# Altium schematic symbol library con-harting-ml.SCHLIB: 70 symbols
Pins are listed as number, name and electrical type; pins without a type are passive.

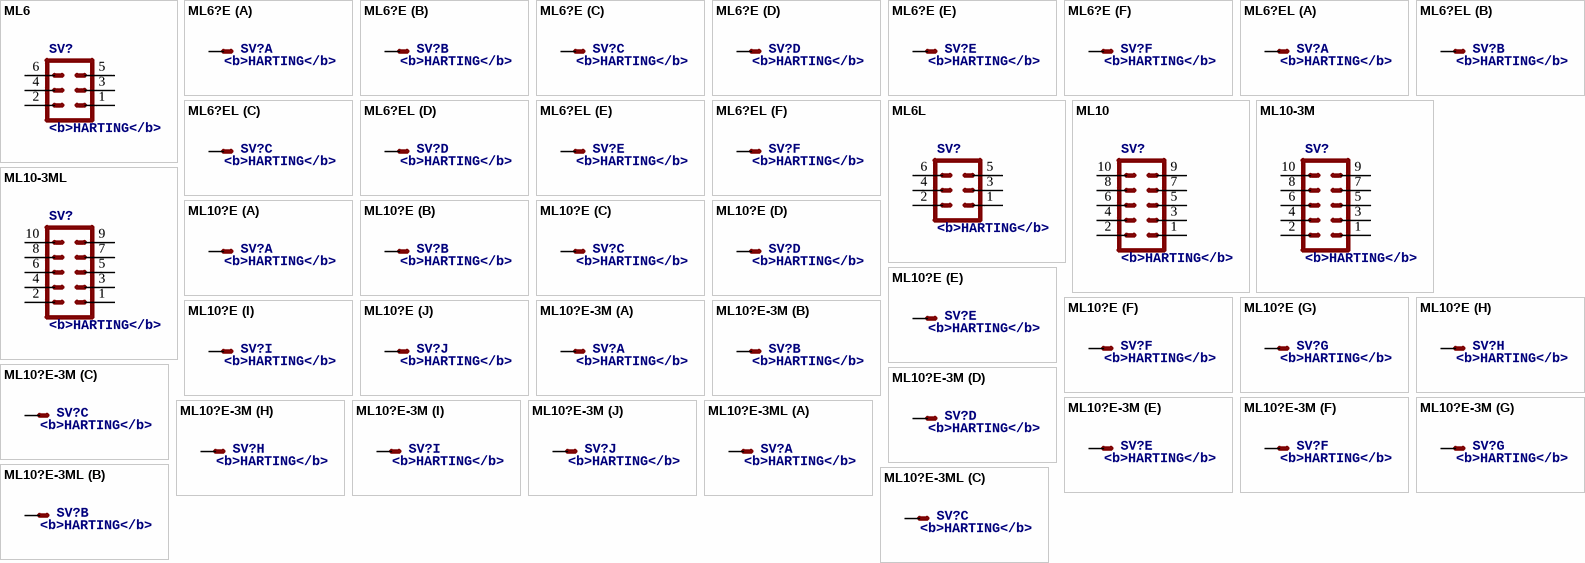
[diagram p0: symbols ML6 to ML10?E-3ML]

## ML6
designator SV?, comment <b>HARTING</b>
OC_FARNELL: unknown; OC_NEWARK: unknown
footprint ML6
pins: 1, 2, 3, 4, 5, 6

## ML6?E
designator SV?, comment <b>HARTING</b>
OC_FARNELL: unknown; OC_NEWARK: unknown
footprint ML6
part A pins: 1 S
part B pins: 2 S
part C pins: 3 S
part D pins: 4 S
part E pins: 5 S
part F pins: 6 S

## ML6?EL
designator SV?, comment <b>HARTING</b>
OC_FARNELL: unknown; OC_NEWARK: unknown
footprint ML6L
part A pins: 1 S
part B pins: 2 S
part C pins: 3 S
part D pins: 4 S
part E pins: 5 S
part F pins: 6 S

## ML6L
designator SV?, comment <b>HARTING</b>
OC_FARNELL: unknown; OC_NEWARK: unknown
footprint ML6L
pins: 1, 2, 3, 4, 5, 6

## ML10
designator SV?, comment <b>HARTING</b>
OC_FARNELL: unknown; OC_NEWARK: unknown
footprint ML10
pins: 1, 2, 3, 4, 5, 6, 7, 8, 9, 10

## ML10-3M
designator SV?, comment <b>HARTING</b>
OC_FARNELL: unknown; OC_NEWARK: unknown
footprint 3M_10
pins: 1, 2, 3, 4, 5, 6, 7, 8, 9, 10

## ML10-3ML
designator SV?, comment <b>HARTING</b>
OC_FARNELL: unknown; OC_NEWARK: unknown
footprint 3M_10L
pins: 1, 2, 3, 4, 5, 6, 7, 8, 9, 10

## ML10?E
designator SV?, comment <b>HARTING</b>
OC_FARNELL: unknown; OC_NEWARK: unknown
footprint ML10
part A pins: 1 S
part B pins: 2 S
part C pins: 3 S
part D pins: 4 S
part E pins: 5 S
part F pins: 6 S
part G pins: 7 S
part H pins: 8 S
part I pins: 9 S
part J pins: 10 S

## ML10?E-3M
designator SV?, comment <b>HARTING</b>
OC_FARNELL: unknown; OC_NEWARK: unknown
footprint 3M_10
part A pins: 1 S
part B pins: 2 S
part C pins: 3 S
part D pins: 4 S
part E pins: 5 S
part F pins: 6 S
part G pins: 7 S
part H pins: 8 S
part I pins: 9 S
part J pins: 10 S

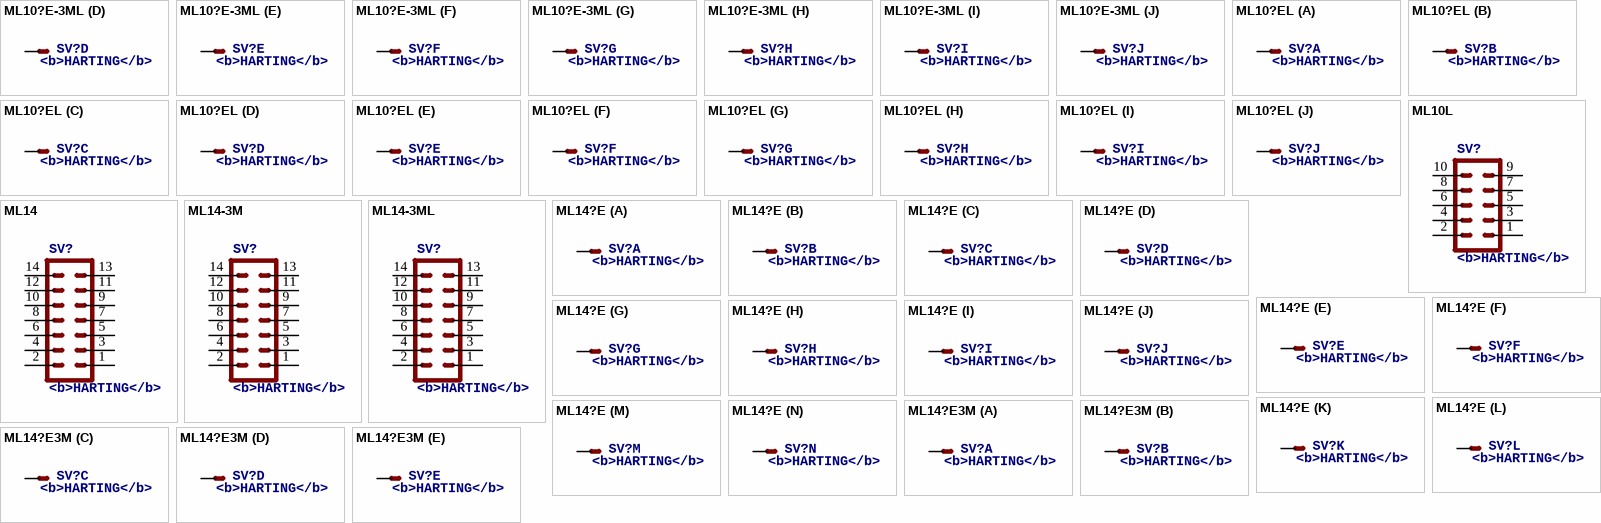
[diagram p1: symbols ML10?E-3ML to ML14?E3M]

## ML10?E-3ML
designator SV?, comment <b>HARTING</b>
OC_FARNELL: unknown; OC_NEWARK: unknown
footprint 3M_10L
part A pins: 1 S
part B pins: 2 S
part C pins: 3 S
part D pins: 4 S
part E pins: 5 S
part F pins: 6 S
part G pins: 7 S
part H pins: 8 S
part I pins: 9 S
part J pins: 10 S

## ML10?EL
designator SV?, comment <b>HARTING</b>
OC_FARNELL: unknown; OC_NEWARK: unknown
footprint ML10L
part A pins: 1 S
part B pins: 2 S
part C pins: 3 S
part D pins: 4 S
part E pins: 5 S
part F pins: 6 S
part G pins: 7 S
part H pins: 8 S
part I pins: 9 S
part J pins: 10 S

## ML10L
designator SV?, comment <b>HARTING</b>
OC_FARNELL: unknown; OC_NEWARK: unknown
footprint ML10L
pins: 1, 2, 3, 4, 5, 6, 7, 8, 9, 10

## ML14
designator SV?, comment <b>HARTING</b>
OC_FARNELL: unknown; OC_NEWARK: unknown
footprint ML14
pins: 1, 2, 3, 4, 5, 6, 7, 8, 9, 10, 11, 12, 13, 14

## ML14-3M
designator SV?, comment <b>HARTING</b>
OC_FARNELL: unknown; OC_NEWARK: unknown
footprint 3M_14
pins: 1, 2, 3, 4, 5, 6, 7, 8, 9, 10, 11, 12, 13, 14

## ML14-3ML
designator SV?, comment <b>HARTING</b>
OC_FARNELL: unknown; OC_NEWARK: unknown
footprint 3M_14L
pins: 1, 2, 3, 4, 5, 6, 7, 8, 9, 10, 11, 12, 13, 14

## ML14?E
designator SV?, comment <b>HARTING</b>
OC_FARNELL: unknown; OC_NEWARK: unknown
footprint ML14
part A pins: 1 S
part B pins: 2 S
part C pins: 3 S
part D pins: 4 S
part E pins: 5 S
part F pins: 6 S
part G pins: 7 S
part H pins: 8 S
part I pins: 9 S
part J pins: 10 S
part K pins: 11 S
part L pins: 12 S
part M pins: 13 S
part N pins: 14 S

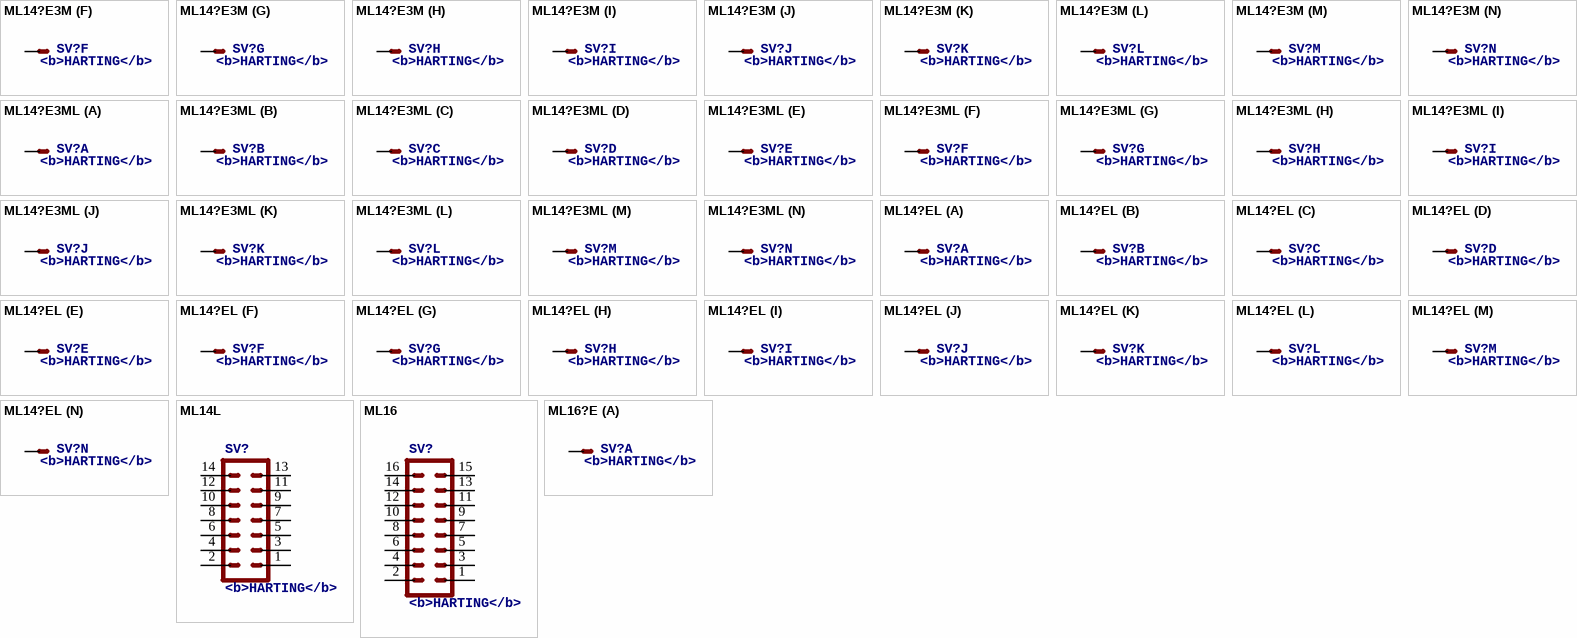
[diagram p2: symbols ML14?E3M to ML16?E]

## ML14?E3M
designator SV?, comment <b>HARTING</b>
OC_FARNELL: unknown; OC_NEWARK: unknown
footprint 3M_14
part A pins: 1 S
part B pins: 2 S
part C pins: 3 S
part D pins: 4 S
part E pins: 5 S
part F pins: 6 S
part G pins: 7 S
part H pins: 8 S
part I pins: 9 S
part J pins: 10 S
part K pins: 11 S
part L pins: 12 S
part M pins: 13 S
part N pins: 14 S

## ML14?E3ML
designator SV?, comment <b>HARTING</b>
OC_FARNELL: unknown; OC_NEWARK: unknown
footprint 3M_14L
part A pins: 1 S
part B pins: 2 S
part C pins: 3 S
part D pins: 4 S
part E pins: 5 S
part F pins: 6 S
part G pins: 7 S
part H pins: 8 S
part I pins: 9 S
part J pins: 10 S
part K pins: 11 S
part L pins: 12 S
part M pins: 13 S
part N pins: 14 S

## ML14?EL
designator SV?, comment <b>HARTING</b>
OC_FARNELL: unknown; OC_NEWARK: unknown
footprint ML14L
part A pins: 1 S
part B pins: 2 S
part C pins: 3 S
part D pins: 4 S
part E pins: 5 S
part F pins: 6 S
part G pins: 7 S
part H pins: 8 S
part I pins: 9 S
part J pins: 10 S
part K pins: 11 S
part L pins: 12 S
part M pins: 13 S
part N pins: 14 S

## ML14L
designator SV?, comment <b>HARTING</b>
OC_FARNELL: unknown; OC_NEWARK: unknown
footprint ML14L
pins: 1, 2, 3, 4, 5, 6, 7, 8, 9, 10, 11, 12, 13, 14

## ML16
designator SV?, comment <b>HARTING</b>
OC_FARNELL: unknown; OC_NEWARK: unknown
footprint ML16
pins: 1, 2, 3, 4, 5, 6, 7, 8, 9, 10, 11, 12, 13, 14, 15, 16

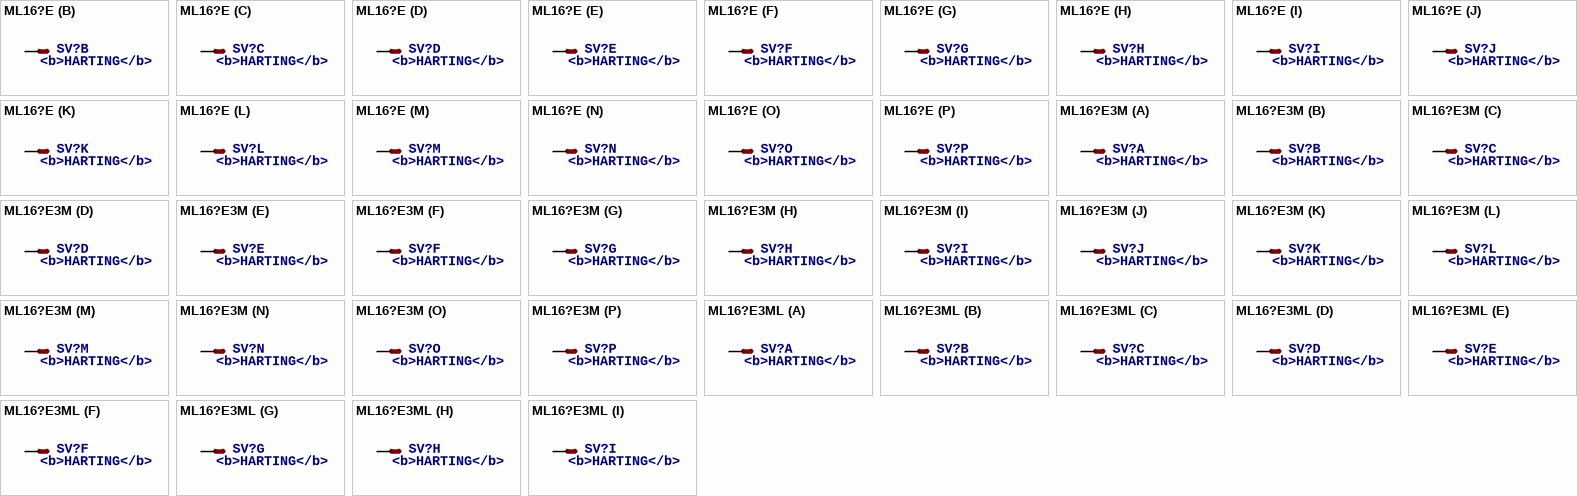
[diagram p3: symbols ML16?E to ML16?E3ML]

## ML16?E
designator SV?, comment <b>HARTING</b>
OC_FARNELL: unknown; OC_NEWARK: unknown
footprint ML16
part A pins: 1 S
part B pins: 2 S
part C pins: 3 S
part D pins: 4 S
part E pins: 5 S
part F pins: 6 S
part G pins: 7 S
part H pins: 8 S
part I pins: 9 S
part J pins: 10 S
part K pins: 11 S
part L pins: 12 S
part M pins: 13 S
part N pins: 14 S
part O pins: 15 S
part P pins: 16 S

## ML16?E3M
designator SV?, comment <b>HARTING</b>
OC_FARNELL: unknown; OC_NEWARK: unknown
footprint 3M_16
part A pins: 1 S
part B pins: 2 S
part C pins: 3 S
part D pins: 4 S
part E pins: 5 S
part F pins: 6 S
part G pins: 7 S
part H pins: 8 S
part I pins: 9 S
part J pins: 10 S
part K pins: 11 S
part L pins: 12 S
part M pins: 13 S
part N pins: 14 S
part O pins: 15 S
part P pins: 16 S

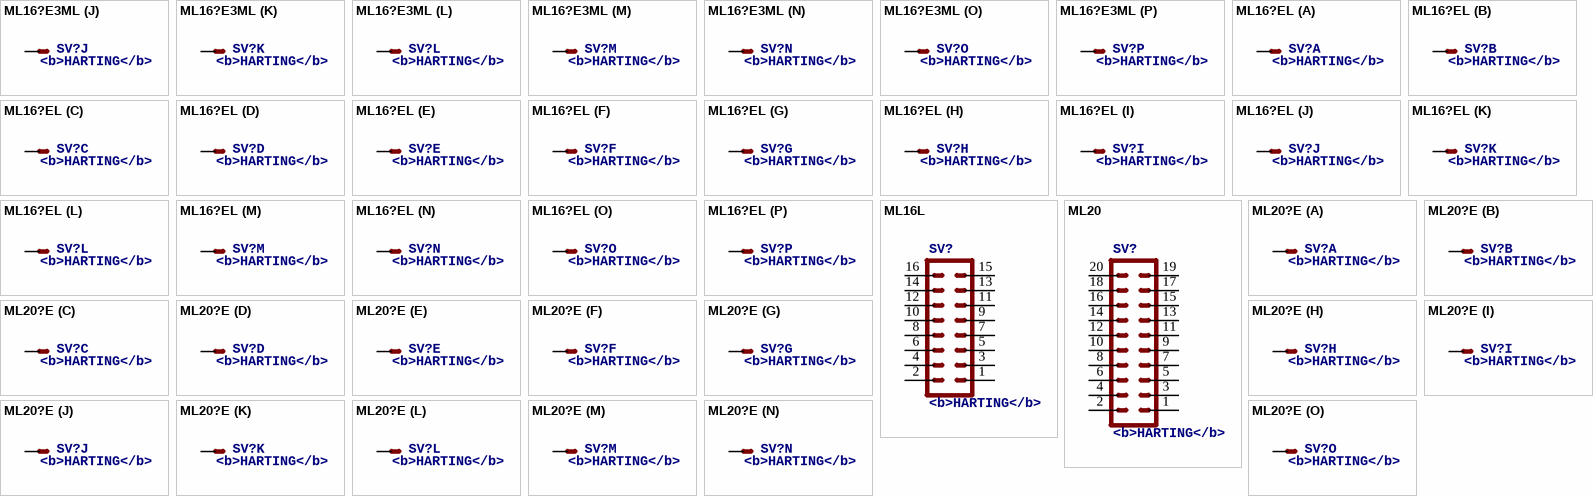
[diagram p4: symbols ML16?E3ML to ML20?E]

## ML16?E3ML
designator SV?, comment <b>HARTING</b>
OC_FARNELL: unknown; OC_NEWARK: unknown
footprint 3M_16L
part A pins: 1 S
part B pins: 2 S
part C pins: 3 S
part D pins: 4 S
part E pins: 5 S
part F pins: 6 S
part G pins: 7 S
part H pins: 8 S
part I pins: 9 S
part J pins: 10 S
part K pins: 11 S
part L pins: 12 S
part M pins: 13 S
part N pins: 14 S
part O pins: 15 S
part P pins: 16 S

## ML16?EL
designator SV?, comment <b>HARTING</b>
OC_FARNELL: unknown; OC_NEWARK: unknown
footprint ML16L
part A pins: 1 S
part B pins: 2 S
part C pins: 3 S
part D pins: 4 S
part E pins: 5 S
part F pins: 6 S
part G pins: 7 S
part H pins: 8 S
part I pins: 9 S
part J pins: 10 S
part K pins: 11 S
part L pins: 12 S
part M pins: 13 S
part N pins: 14 S
part O pins: 15 S
part P pins: 16 S

## ML16L
designator SV?, comment <b>HARTING</b>
OC_FARNELL: unknown; OC_NEWARK: unknown
footprint ML16L
pins: 1, 2, 3, 4, 5, 6, 7, 8, 9, 10, 11, 12, 13, 14, 15, 16

## ML20
designator SV?, comment <b>HARTING</b>
OC_FARNELL: unknown; OC_NEWARK: unknown
footprint ML20
pins: 1, 2, 3, 4, 5, 6, 7, 8, 9, 10, 11, 12, 13, 14, 15, 16, 17, 18, 19, 20

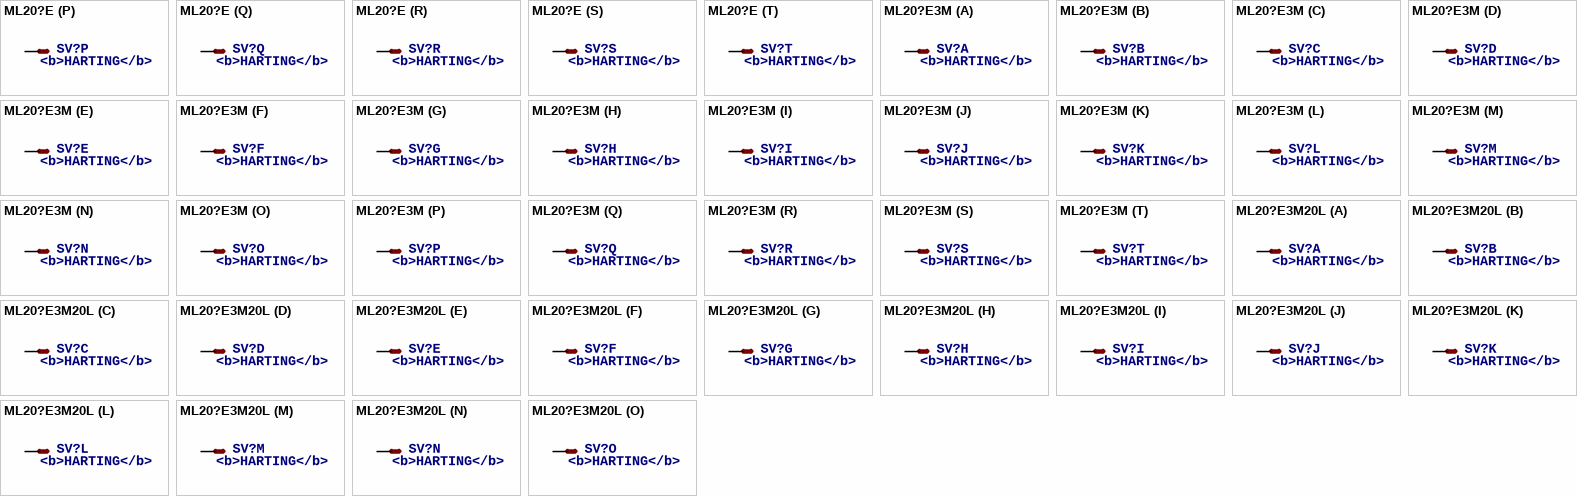
[diagram p5: symbols ML20?E to ML20?E3M20L]

## ML20?E
designator SV?, comment <b>HARTING</b>
OC_FARNELL: unknown; OC_NEWARK: unknown
footprint ML20
part A pins: 1 S
part B pins: 2 S
part C pins: 3 S
part D pins: 4 S
part E pins: 5 S
part F pins: 6 S
part G pins: 7 S
part H pins: 8 S
part I pins: 9 S
part J pins: 10 S
part K pins: 11 S
part L pins: 12 S
part M pins: 13 S
part N pins: 14 S
part O pins: 15 S
part P pins: 16 S
part Q pins: 17 S
part R pins: 18 S
part S pins: 19 S
part T pins: 20 S

## ML20?E3M
designator SV?, comment <b>HARTING</b>
OC_FARNELL: unknown; OC_NEWARK: unknown
footprint 3M_20
part A pins: 1 S
part B pins: 2 S
part C pins: 3 S
part D pins: 4 S
part E pins: 5 S
part F pins: 6 S
part G pins: 7 S
part H pins: 8 S
part I pins: 9 S
part J pins: 10 S
part K pins: 11 S
part L pins: 12 S
part M pins: 13 S
part N pins: 14 S
part O pins: 15 S
part P pins: 16 S
part Q pins: 17 S
part R pins: 18 S
part S pins: 19 S
part T pins: 20 S

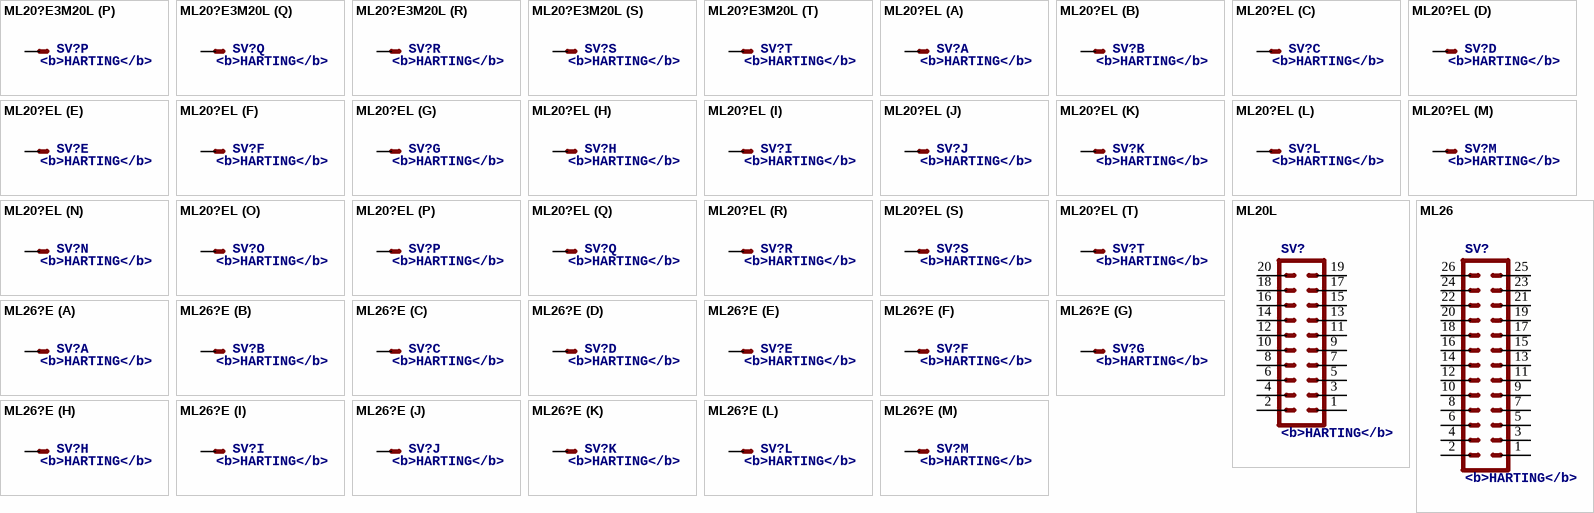
[diagram p6: symbols ML20?E3M20L to ML26?E]

## ML20?E3M20L
designator SV?, comment <b>HARTING</b>
OC_FARNELL: unknown; OC_NEWARK: unknown
footprint 3M_20L
part A pins: 1 S
part B pins: 2 S
part C pins: 3 S
part D pins: 4 S
part E pins: 5 S
part F pins: 6 S
part G pins: 7 S
part H pins: 8 S
part I pins: 9 S
part J pins: 10 S
part K pins: 11 S
part L pins: 12 S
part M pins: 13 S
part N pins: 14 S
part O pins: 15 S
part P pins: 16 S
part Q pins: 17 S
part R pins: 18 S
part S pins: 19 S
part T pins: 20 S

## ML20?EL
designator SV?, comment <b>HARTING</b>
OC_FARNELL: unknown; OC_NEWARK: unknown
footprint ML20L
part A pins: 1 S
part B pins: 2 S
part C pins: 3 S
part D pins: 4 S
part E pins: 5 S
part F pins: 6 S
part G pins: 7 S
part H pins: 8 S
part I pins: 9 S
part J pins: 10 S
part K pins: 11 S
part L pins: 12 S
part M pins: 13 S
part N pins: 14 S
part O pins: 15 S
part P pins: 16 S
part Q pins: 17 S
part R pins: 18 S
part S pins: 19 S
part T pins: 20 S

## ML20L
designator SV?, comment <b>HARTING</b>
OC_FARNELL: unknown; OC_NEWARK: unknown
footprint ML20L
pins: 1, 2, 3, 4, 5, 6, 7, 8, 9, 10, 11, 12, 13, 14, 15, 16, 17, 18, 19, 20

## ML26
designator SV?, comment <b>HARTING</b>
OC_FARNELL: unknown; OC_NEWARK: unknown
footprint ML26
pins: 1, 2, 3, 4, 5, 6, 7, 8, 9, 10, 11, 12, 13, 14, 15, 16, 17, 18, 19, 20, 21, 22, 23, 24, 25, 26

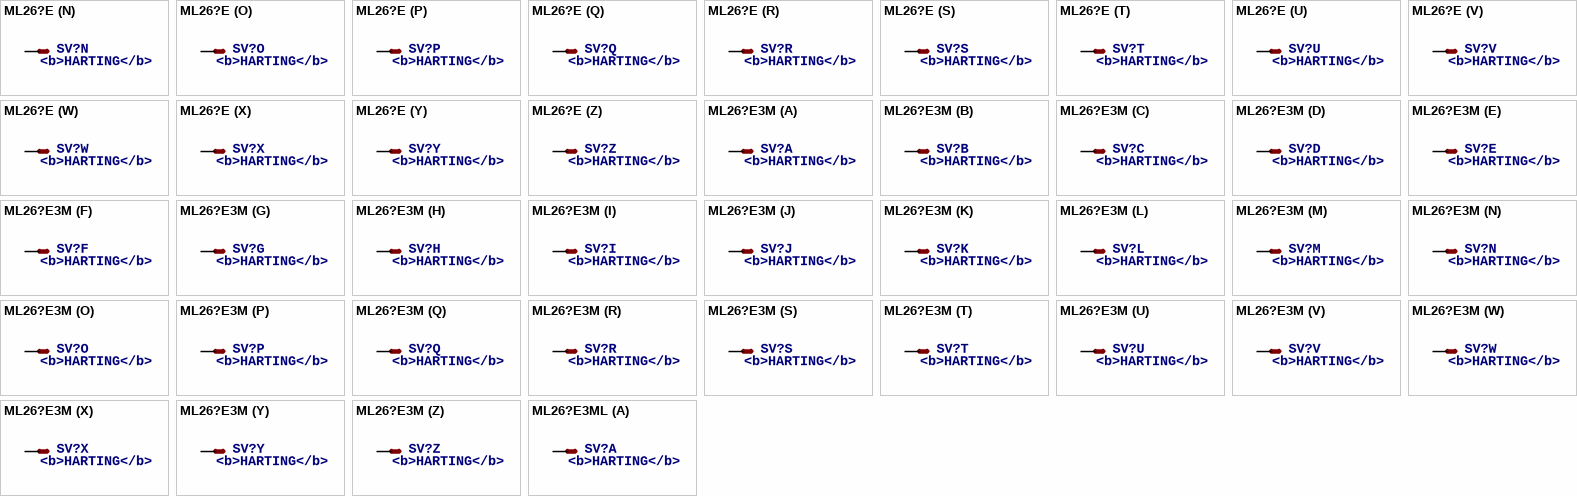
[diagram p7: symbols ML26?E to ML26?E3ML]

## ML26?E
designator SV?, comment <b>HARTING</b>
OC_FARNELL: unknown; OC_NEWARK: unknown
footprint ML26
part A pins: 1 S
part B pins: 2 S
part C pins: 3 S
part D pins: 4 S
part E pins: 5 S
part F pins: 6 S
part G pins: 7 S
part H pins: 8 S
part I pins: 9 S
part J pins: 10 S
part K pins: 11 S
part L pins: 12 S
part M pins: 13 S
part N pins: 14 S
part O pins: 15 S
part P pins: 16 S
part Q pins: 17 S
part R pins: 18 S
part S pins: 19 S
part T pins: 20 S
part U pins: 21 S
part V pins: 22 S
part W pins: 23 S
part X pins: 24 S
part Y pins: 25 S
part Z pins: 26 S

## ML26?E3M
designator SV?, comment <b>HARTING</b>
OC_FARNELL: unknown; OC_NEWARK: unknown
footprint 3M_26
part A pins: 1 S
part B pins: 2 S
part C pins: 3 S
part D pins: 4 S
part E pins: 5 S
part F pins: 6 S
part G pins: 7 S
part H pins: 8 S
part I pins: 9 S
part J pins: 10 S
part K pins: 11 S
part L pins: 12 S
part M pins: 13 S
part N pins: 14 S
part O pins: 15 S
part P pins: 16 S
part Q pins: 17 S
part R pins: 18 S
part S pins: 19 S
part T pins: 20 S
part U pins: 21 S
part V pins: 22 S
part W pins: 23 S
part X pins: 24 S
part Y pins: 25 S
part Z pins: 26 S

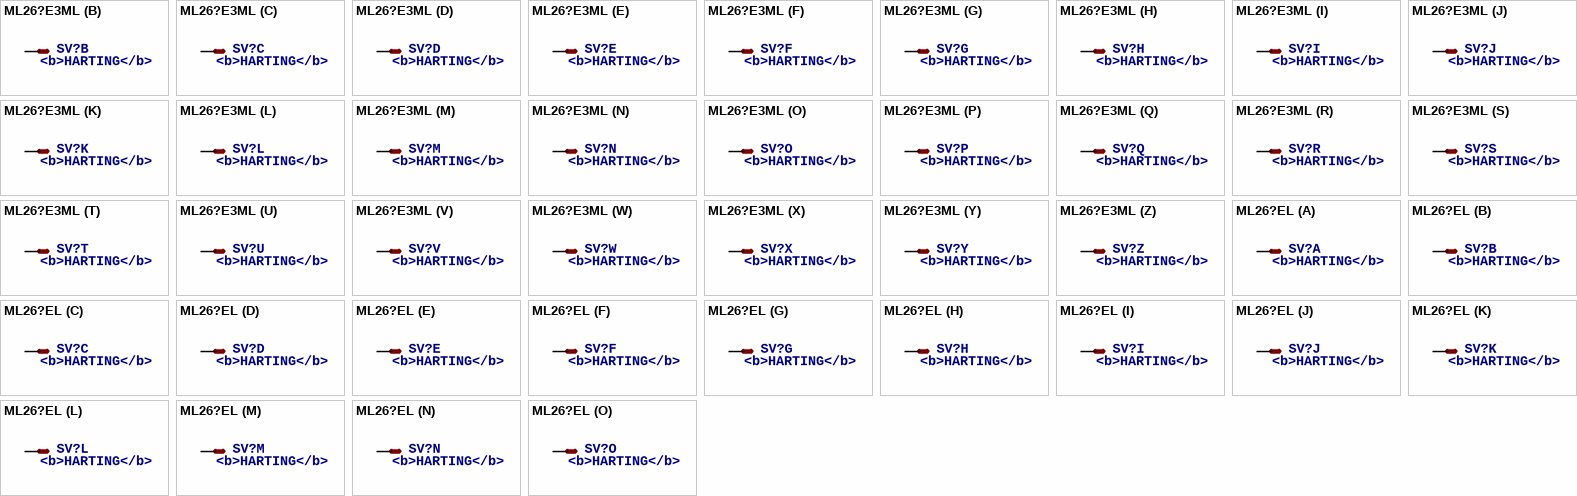
[diagram p8: symbols ML26?E3ML to ML26?EL]

## ML26?E3ML
designator SV?, comment <b>HARTING</b>
OC_FARNELL: unknown; OC_NEWARK: unknown
footprint 3M_26L
part A pins: 1 S
part B pins: 2 S
part C pins: 3 S
part D pins: 4 S
part E pins: 5 S
part F pins: 6 S
part G pins: 7 S
part H pins: 8 S
part I pins: 9 S
part J pins: 10 S
part K pins: 11 S
part L pins: 12 S
part M pins: 13 S
part N pins: 14 S
part O pins: 15 S
part P pins: 16 S
part Q pins: 17 S
part R pins: 18 S
part S pins: 19 S
part T pins: 20 S
part U pins: 21 S
part V pins: 22 S
part W pins: 23 S
part X pins: 24 S
part Y pins: 25 S
part Z pins: 26 S

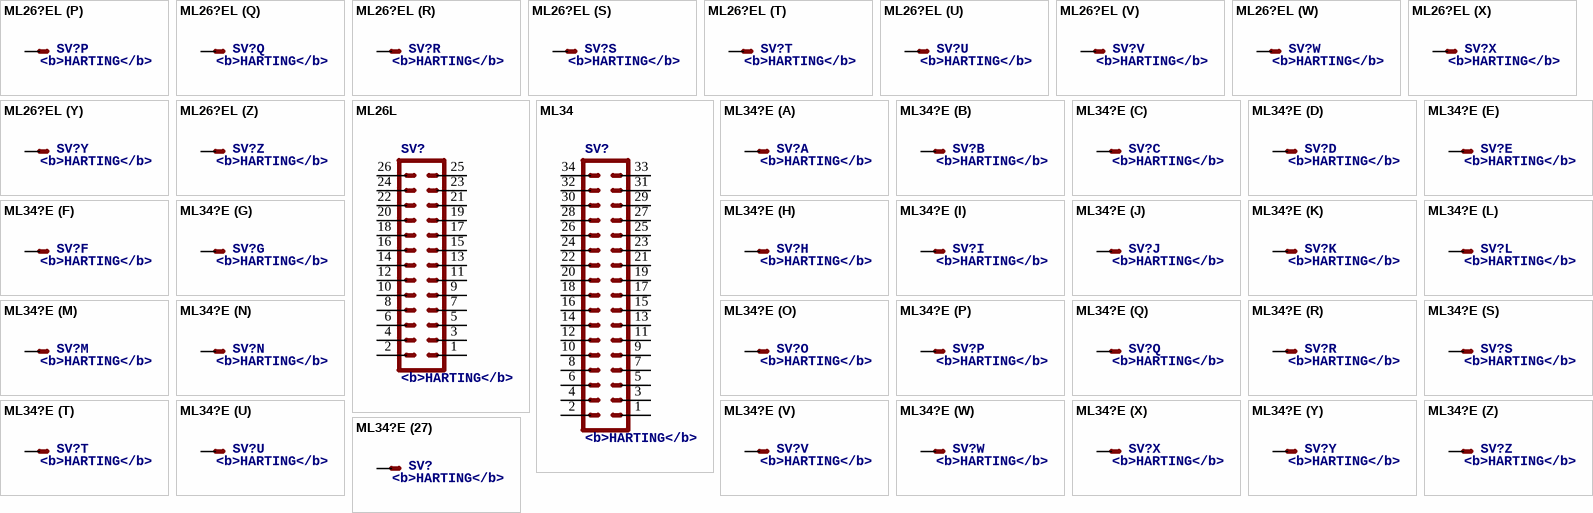
[diagram p9: symbols ML26?EL to ML34?E]

## ML26?EL
designator SV?, comment <b>HARTING</b>
OC_FARNELL: unknown; OC_NEWARK: unknown
footprint ML26L
part A pins: 1 S
part B pins: 2 S
part C pins: 3 S
part D pins: 4 S
part E pins: 5 S
part F pins: 6 S
part G pins: 7 S
part H pins: 8 S
part I pins: 9 S
part J pins: 10 S
part K pins: 11 S
part L pins: 12 S
part M pins: 13 S
part N pins: 14 S
part O pins: 15 S
part P pins: 16 S
part Q pins: 17 S
part R pins: 18 S
part S pins: 19 S
part T pins: 20 S
part U pins: 21 S
part V pins: 22 S
part W pins: 23 S
part X pins: 24 S
part Y pins: 25 S
part Z pins: 26 S

## ML26L
designator SV?, comment <b>HARTING</b>
OC_FARNELL: unknown; OC_NEWARK: unknown
footprint ML26L
pins: 1, 2, 3, 4, 5, 6, 7, 8, 9, 10, 11, 12, 13, 14, 15, 16, 17, 18, 19, 20, 21, 22, 23, 24, 25, 26

## ML34
designator SV?, comment <b>HARTING</b>
OC_FARNELL: unknown; OC_NEWARK: unknown
footprint ML34
pins: 1, 2, 3, 4, 5, 6, 7, 8, 9, 10, 11, 12, 13, 14, 15, 16, 17, 18, 19, 20, 21, 22, 23, 24, 25, 26, 27, 28, 29, 30, 31, 32, 33, 34

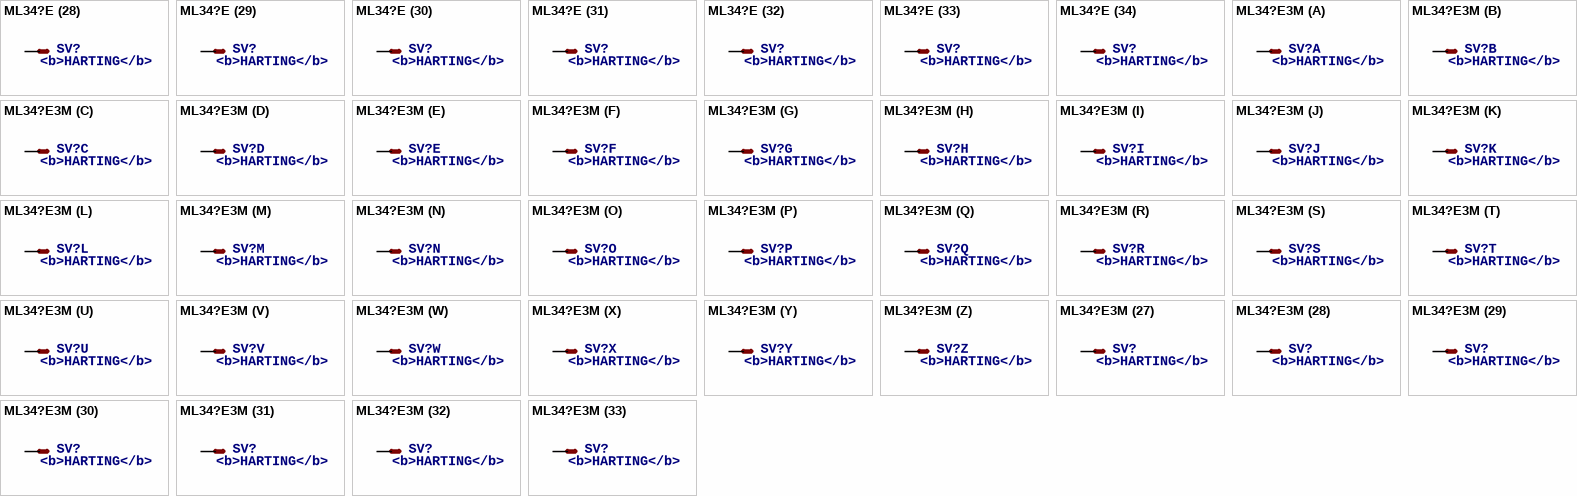
[diagram p10: symbols ML34?E to ML34?E3M]

## ML34?E
designator SV?, comment <b>HARTING</b>
OC_FARNELL: unknown; OC_NEWARK: unknown
footprint ML34
part A pins: 1 S
part B pins: 2 S
part C pins: 3 S
part D pins: 4 S
part E pins: 5 S
part F pins: 6 S
part G pins: 7 S
part H pins: 8 S
part I pins: 9 S
part J pins: 10 S
part K pins: 11 S
part L pins: 12 S
part M pins: 13 S
part N pins: 14 S
part O pins: 15 S
part P pins: 16 S
part Q pins: 17 S
part R pins: 18 S
part S pins: 19 S
part T pins: 20 S
part U pins: 21 S
part V pins: 22 S
part W pins: 23 S
part X pins: 24 S
part Y pins: 25 S
part Z pins: 26 S
part 27 pins: 27 S
part 28 pins: 28 S
part 29 pins: 29 S
part 30 pins: 30 S
part 31 pins: 31 S
part 32 pins: 32 S
part 33 pins: 33 S
part 34 pins: 34 S

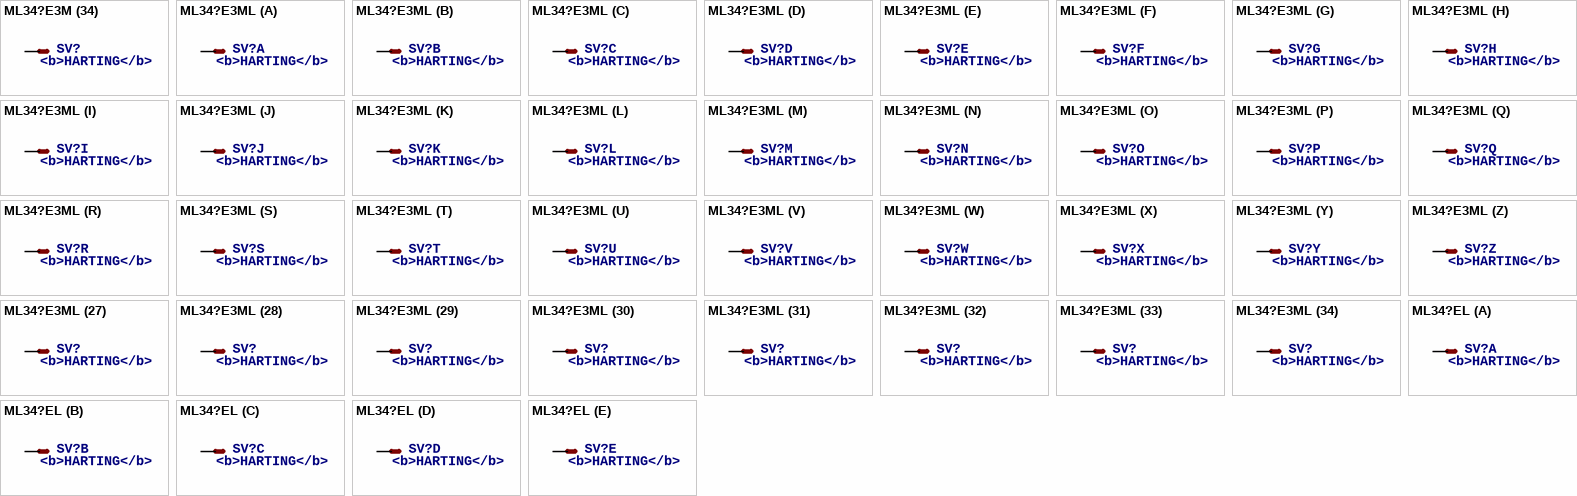
[diagram p11: symbols ML34?E3M to ML34?EL]

## ML34?E3M
designator SV?, comment <b>HARTING</b>
OC_FARNELL: unknown; OC_NEWARK: unknown
footprint 3M_34
part A pins: 1 S
part B pins: 2 S
part C pins: 3 S
part D pins: 4 S
part E pins: 5 S
part F pins: 6 S
part G pins: 7 S
part H pins: 8 S
part I pins: 9 S
part J pins: 10 S
part K pins: 11 S
part L pins: 12 S
part M pins: 13 S
part N pins: 14 S
part O pins: 15 S
part P pins: 16 S
part Q pins: 17 S
part R pins: 18 S
part S pins: 19 S
part T pins: 20 S
part U pins: 21 S
part V pins: 22 S
part W pins: 23 S
part X pins: 24 S
part Y pins: 25 S
part Z pins: 26 S
part 27 pins: 27 S
part 28 pins: 28 S
part 29 pins: 29 S
part 30 pins: 30 S
part 31 pins: 31 S
part 32 pins: 32 S
part 33 pins: 33 S
part 34 pins: 34 S

## ML34?E3ML
designator SV?, comment <b>HARTING</b>
OC_FARNELL: unknown; OC_NEWARK: unknown
footprint 3M_34L
part A pins: 1 S
part B pins: 2 S
part C pins: 3 S
part D pins: 4 S
part E pins: 5 S
part F pins: 6 S
part G pins: 7 S
part H pins: 8 S
part I pins: 9 S
part J pins: 10 S
part K pins: 11 S
part L pins: 12 S
part M pins: 13 S
part N pins: 14 S
part O pins: 15 S
part P pins: 16 S
part Q pins: 17 S
part R pins: 18 S
part S pins: 19 S
part T pins: 20 S
part U pins: 21 S
part V pins: 22 S
part W pins: 23 S
part X pins: 24 S
part Y pins: 25 S
part Z pins: 26 S
part 27 pins: 27 S
part 28 pins: 28 S
part 29 pins: 29 S
part 30 pins: 30 S
part 31 pins: 31 S
part 32 pins: 32 S
part 33 pins: 33 S
part 34 pins: 34 S

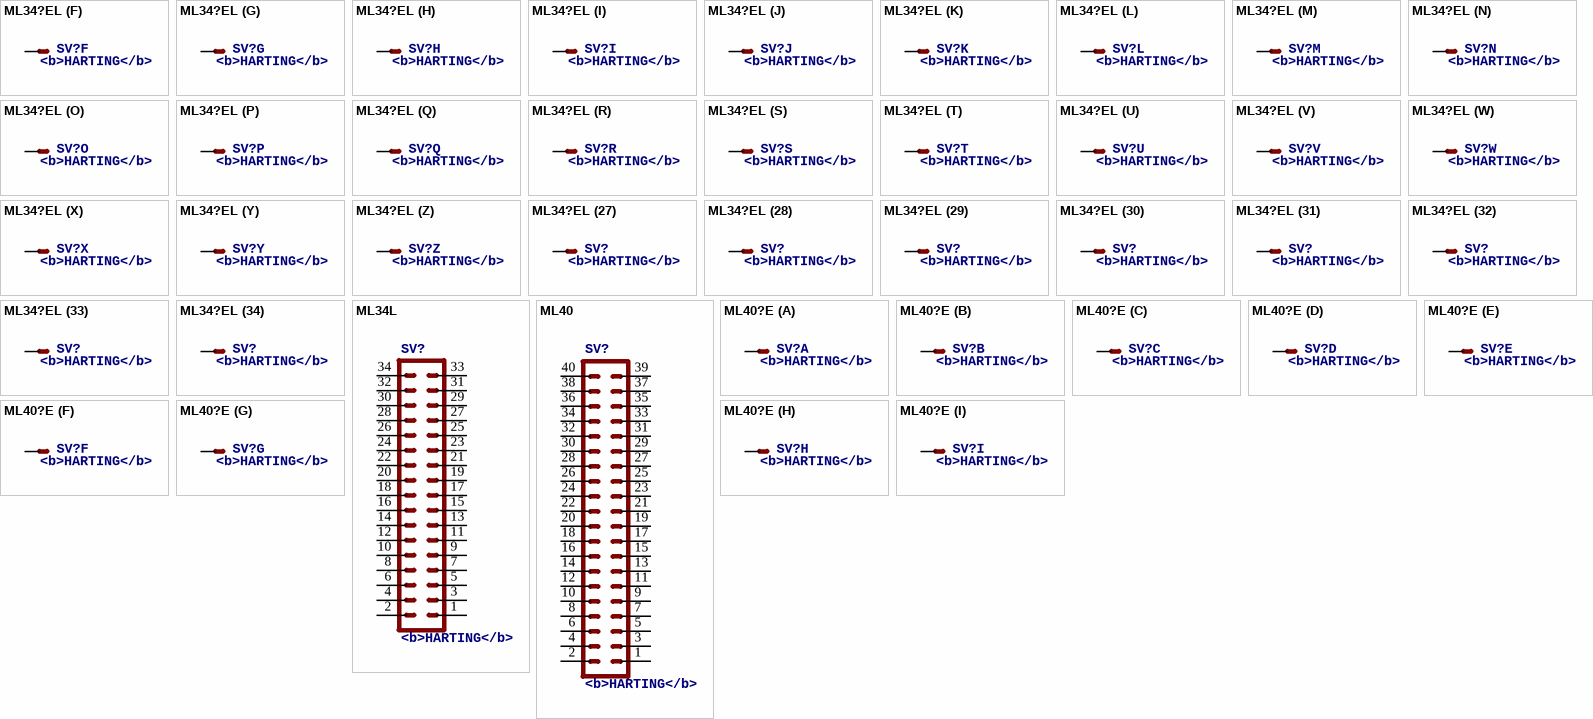
[diagram p12: symbols ML34?EL to ML40?E]

## ML34?EL
designator SV?, comment <b>HARTING</b>
OC_FARNELL: unknown; OC_NEWARK: unknown
footprint ML34L
part A pins: 1 S
part B pins: 2 S
part C pins: 3 S
part D pins: 4 S
part E pins: 5 S
part F pins: 6 S
part G pins: 7 S
part H pins: 8 S
part I pins: 9 S
part J pins: 10 S
part K pins: 11 S
part L pins: 12 S
part M pins: 13 S
part N pins: 14 S
part O pins: 15 S
part P pins: 16 S
part Q pins: 17 S
part R pins: 18 S
part S pins: 19 S
part T pins: 20 S
part U pins: 21 S
part V pins: 22 S
part W pins: 23 S
part X pins: 24 S
part Y pins: 25 S
part Z pins: 26 S
part 27 pins: 27 S
part 28 pins: 28 S
part 29 pins: 29 S
part 30 pins: 30 S
part 31 pins: 31 S
part 32 pins: 32 S
part 33 pins: 33 S
part 34 pins: 34 S

## ML34L
designator SV?, comment <b>HARTING</b>
OC_FARNELL: unknown; OC_NEWARK: unknown
footprint ML34L
pins: 1, 2, 3, 4, 5, 6, 7, 8, 9, 10, 11, 12, 13, 14, 15, 16, 17, 18, 19, 20, 21, 22, 23, 24, 25, 26, 27, 28, 29, 30, 31, 32, 33, 34

## ML40
designator SV?, comment <b>HARTING</b>
OC_FARNELL: unknown; OC_NEWARK: unknown
footprint ML40
pins: 1, 2, 3, 4, 5, 6, 7, 8, 9, 10, 11, 12, 13, 14, 15, 16, 17, 18, 19, 20, 21, 22, 23, 24, 25, 26, 27, 28, 29, 30, 31, 32, 33, 34, 35, 36, 37, 38, 39, 40

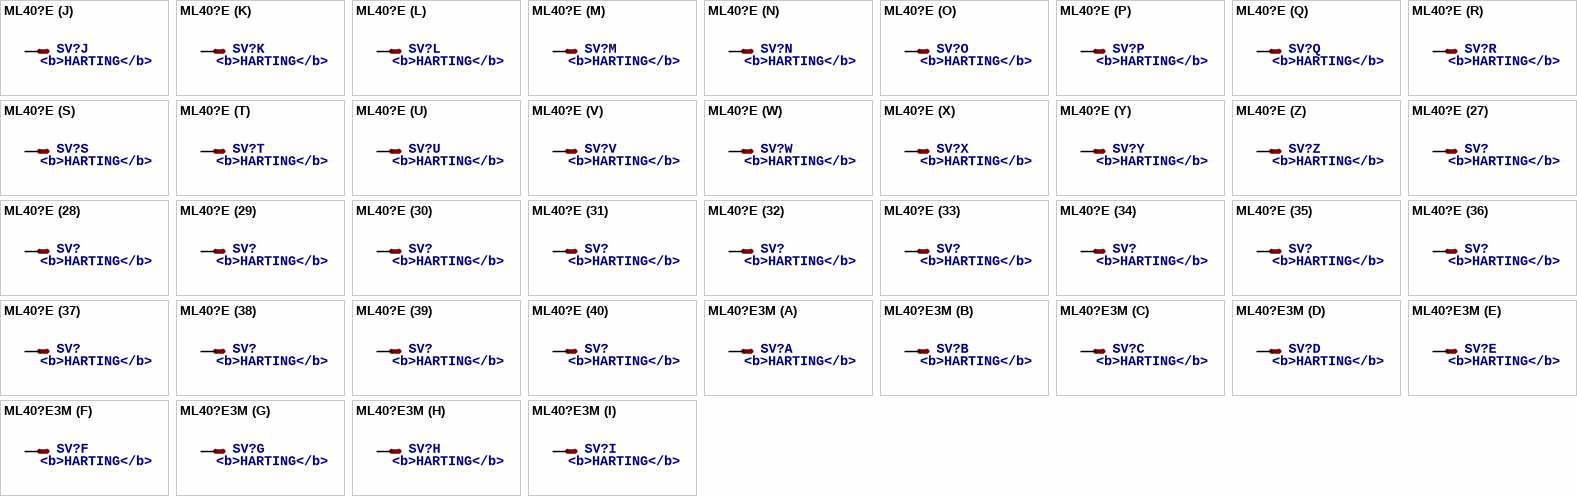
[diagram p13: symbols ML40?E to ML40?E3M]

## ML40?E
designator SV?, comment <b>HARTING</b>
OC_FARNELL: unknown; OC_NEWARK: unknown
footprint ML40
part A pins: 1 S
part B pins: 2 S
part C pins: 3 S
part D pins: 4 S
part E pins: 5 S
part F pins: 6 S
part G pins: 7 S
part H pins: 8 S
part I pins: 9 S
part J pins: 10 S
part K pins: 11 S
part L pins: 12 S
part M pins: 13 S
part N pins: 14 S
part O pins: 15 S
part P pins: 16 S
part Q pins: 17 S
part R pins: 18 S
part S pins: 19 S
part T pins: 20 S
part U pins: 21 S
part V pins: 22 S
part W pins: 23 S
part X pins: 24 S
part Y pins: 25 S
part Z pins: 26 S
part 27 pins: 27 S
part 28 pins: 28 S
part 29 pins: 29 S
part 30 pins: 30 S
part 31 pins: 31 S
part 32 pins: 32 S
part 33 pins: 33 S
part 34 pins: 34 S
part 35 pins: 35 S
part 36 pins: 36 S
part 37 pins: 37 S
part 38 pins: 38 S
part 39 pins: 39 S
part 40 pins: 40 S

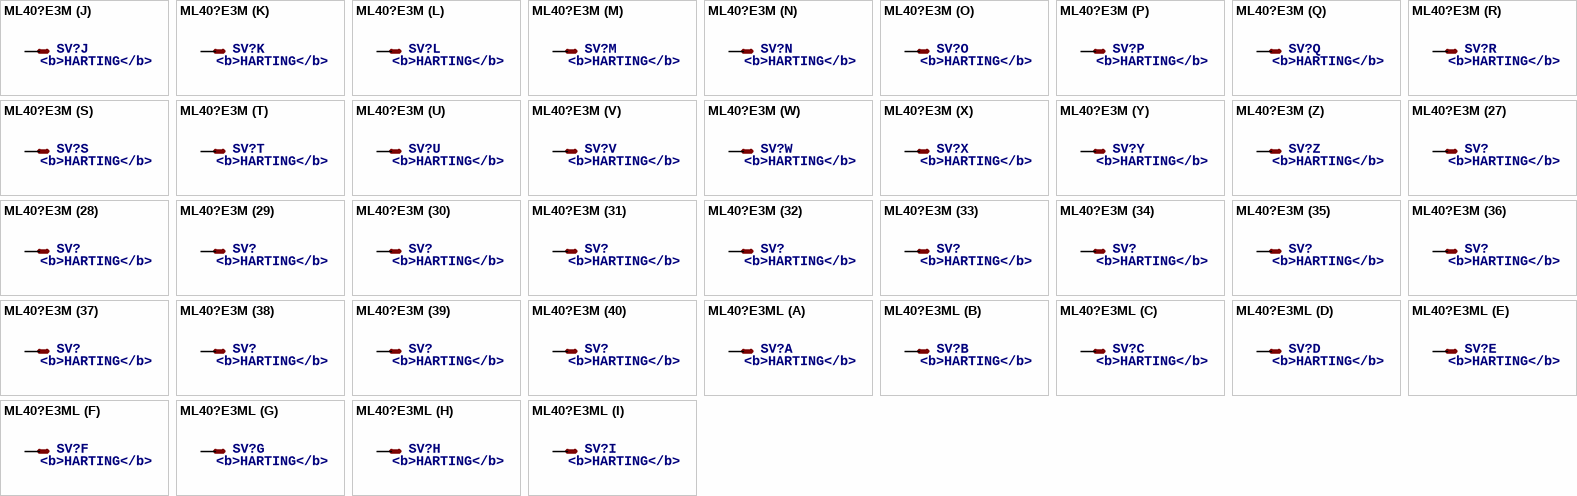
[diagram p14: symbols ML40?E3M to ML40?E3ML]

## ML40?E3M
designator SV?, comment <b>HARTING</b>
OC_FARNELL: unknown; OC_NEWARK: unknown
footprint 3M_40
part A pins: 1 S
part B pins: 2 S
part C pins: 3 S
part D pins: 4 S
part E pins: 5 S
part F pins: 6 S
part G pins: 7 S
part H pins: 8 S
part I pins: 9 S
part J pins: 10 S
part K pins: 11 S
part L pins: 12 S
part M pins: 13 S
part N pins: 14 S
part O pins: 15 S
part P pins: 16 S
part Q pins: 17 S
part R pins: 18 S
part S pins: 19 S
part T pins: 20 S
part U pins: 21 S
part V pins: 22 S
part W pins: 23 S
part X pins: 24 S
part Y pins: 25 S
part Z pins: 26 S
part 27 pins: 27 S
part 28 pins: 28 S
part 29 pins: 29 S
part 30 pins: 30 S
part 31 pins: 31 S
part 32 pins: 32 S
part 33 pins: 33 S
part 34 pins: 34 S
part 35 pins: 35 S
part 36 pins: 36 S
part 37 pins: 37 S
part 38 pins: 38 S
part 39 pins: 39 S
part 40 pins: 40 S

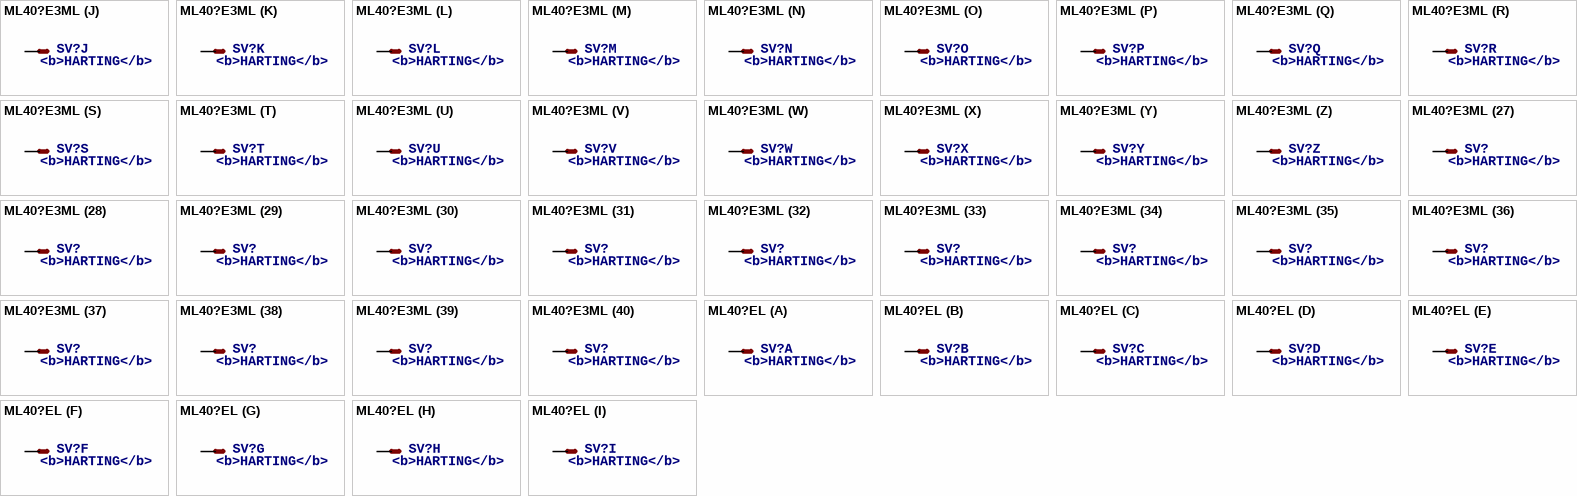
[diagram p15: symbols ML40?E3ML to ML40?EL]

## ML40?E3ML
designator SV?, comment <b>HARTING</b>
OC_FARNELL: unknown; OC_NEWARK: unknown
footprint 3M_40L
part A pins: 1 S
part B pins: 2 S
part C pins: 3 S
part D pins: 4 S
part E pins: 5 S
part F pins: 6 S
part G pins: 7 S
part H pins: 8 S
part I pins: 9 S
part J pins: 10 S
part K pins: 11 S
part L pins: 12 S
part M pins: 13 S
part N pins: 14 S
part O pins: 15 S
part P pins: 16 S
part Q pins: 17 S
part R pins: 18 S
part S pins: 19 S
part T pins: 20 S
part U pins: 21 S
part V pins: 22 S
part W pins: 23 S
part X pins: 24 S
part Y pins: 25 S
part Z pins: 26 S
part 27 pins: 27 S
part 28 pins: 28 S
part 29 pins: 29 S
part 30 pins: 30 S
part 31 pins: 31 S
part 32 pins: 32 S
part 33 pins: 33 S
part 34 pins: 34 S
part 35 pins: 35 S
part 36 pins: 36 S
part 37 pins: 37 S
part 38 pins: 38 S
part 39 pins: 39 S
part 40 pins: 40 S

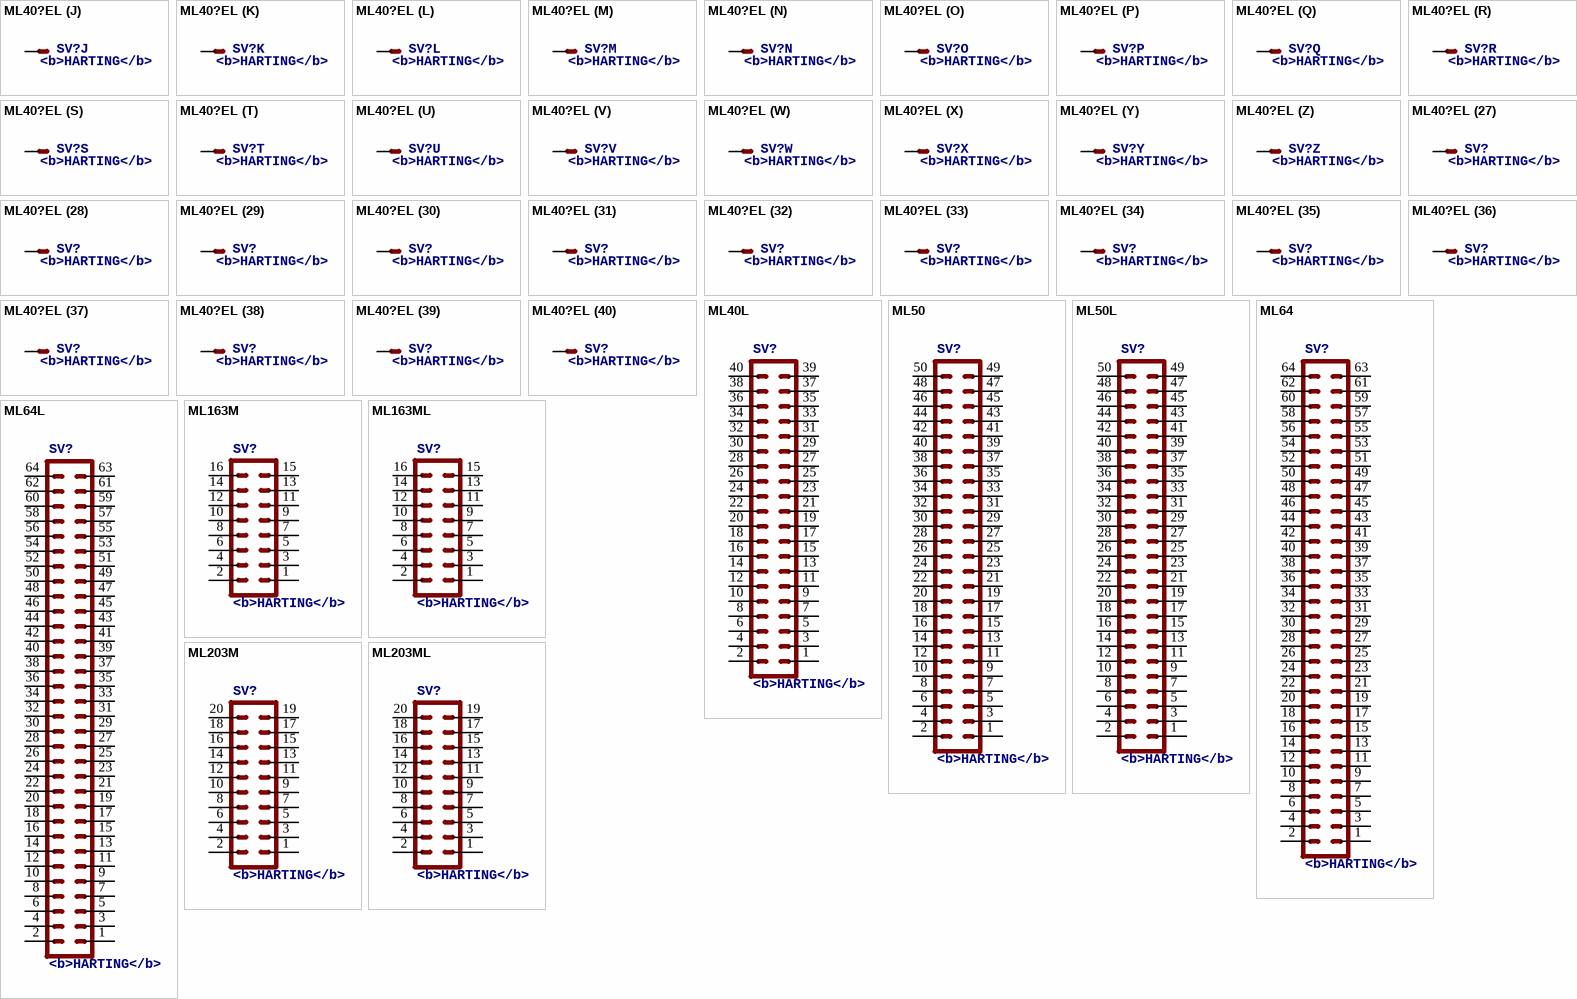
[diagram p16: symbols ML40?EL to ML203ML]

## ML40?EL
designator SV?, comment <b>HARTING</b>
OC_FARNELL: unknown; OC_NEWARK: unknown
footprint ML40L
part A pins: 1 S
part B pins: 2 S
part C pins: 3 S
part D pins: 4 S
part E pins: 5 S
part F pins: 6 S
part G pins: 7 S
part H pins: 8 S
part I pins: 9 S
part J pins: 10 S
part K pins: 11 S
part L pins: 12 S
part M pins: 13 S
part N pins: 14 S
part O pins: 15 S
part P pins: 16 S
part Q pins: 17 S
part R pins: 18 S
part S pins: 19 S
part T pins: 20 S
part U pins: 21 S
part V pins: 22 S
part W pins: 23 S
part X pins: 24 S
part Y pins: 25 S
part Z pins: 26 S
part 27 pins: 27 S
part 28 pins: 28 S
part 29 pins: 29 S
part 30 pins: 30 S
part 31 pins: 31 S
part 32 pins: 32 S
part 33 pins: 33 S
part 34 pins: 34 S
part 35 pins: 35 S
part 36 pins: 36 S
part 37 pins: 37 S
part 38 pins: 38 S
part 39 pins: 39 S
part 40 pins: 40 S

## ML40L
designator SV?, comment <b>HARTING</b>
OC_FARNELL: unknown; OC_NEWARK: unknown
footprint ML40L
pins: 1, 2, 3, 4, 5, 6, 7, 8, 9, 10, 11, 12, 13, 14, 15, 16, 17, 18, 19, 20, 21, 22, 23, 24, 25, 26, 27, 28, 29, 30, 31, 32, 33, 34, 35, 36, 37, 38, 39, 40

## ML50
designator SV?, comment <b>HARTING</b>
OC_FARNELL: unknown; OC_NEWARK: unknown
footprint ML50
pins: 1, 2, 3, 4, 5, 6, 7, 8, 9, 10, 11, 12, 13, 14, 15, 16, 17, 18, 19, 20, 21, 22, 23, 24, 25, 26, 27, 28, 29, 30, 31, 32, 33, 34, 35, 36, 37, 38, 39, 40, 41, 42, 43, 44, 45, 46, 47, 48, 49, 50

## ML50L
designator SV?, comment <b>HARTING</b>
OC_FARNELL: unknown; OC_NEWARK: unknown
footprint ML50L
pins: 1, 2, 3, 4, 5, 6, 7, 8, 9, 10, 11, 12, 13, 14, 15, 16, 17, 18, 19, 20, 21, 22, 23, 24, 25, 26, 27, 28, 29, 30, 31, 32, 33, 34, 35, 36, 37, 38, 39, 40, 41, 42, 43, 44, 45, 46, 47, 48, 49, 50

## ML64
designator SV?, comment <b>HARTING</b>
OC_FARNELL: unknown; OC_NEWARK: unknown
footprint ML64
pins: 1, 2, 3, 4, 5, 6, 7, 8, 9, 10, 11, 12, 13, 14, 15, 16, 17, 18, 19, 20, 21, 22, 23, 24, 25, 26, 27, 28, 29, 30, 31, 32, 33, 34, 35, 36, 37, 38, 39, 40, 41, 42, 43, 44, 45, 46, 47, 48, 49, 50, 51, 52, 53, 54, 55, 56, 57, 58, 59, 60, 61, 62, 63, 64

## ML64L
designator SV?, comment <b>HARTING</b>
OC_FARNELL: unknown; OC_NEWARK: unknown
footprint ML64L
pins: 1, 2, 3, 4, 5, 6, 7, 8, 9, 10, 11, 12, 13, 14, 15, 16, 17, 18, 19, 20, 21, 22, 23, 24, 25, 26, 27, 28, 29, 30, 31, 32, 33, 34, 35, 36, 37, 38, 39, 40, 41, 42, 43, 44, 45, 46, 47, 48, 49, 50, 51, 52, 53, 54, 55, 56, 57, 58, 59, 60, 61, 62, 63, 64

## ML163M
designator SV?, comment <b>HARTING</b>
OC_FARNELL: unknown; OC_NEWARK: unknown
footprint 3M_16
pins: 1, 2, 3, 4, 5, 6, 7, 8, 9, 10, 11, 12, 13, 14, 15, 16

## ML163ML
designator SV?, comment <b>HARTING</b>
OC_FARNELL: unknown; OC_NEWARK: unknown
footprint 3M_16L
pins: 1, 2, 3, 4, 5, 6, 7, 8, 9, 10, 11, 12, 13, 14, 15, 16

## ML203M
designator SV?, comment <b>HARTING</b>
OC_FARNELL: unknown; OC_NEWARK: unknown
footprint 3M_20
pins: 1, 2, 3, 4, 5, 6, 7, 8, 9, 10, 11, 12, 13, 14, 15, 16, 17, 18, 19, 20

## ML203ML
designator SV?, comment <b>HARTING</b>
OC_FARNELL: unknown; OC_NEWARK: unknown
footprint 3M_20L
pins: 1, 2, 3, 4, 5, 6, 7, 8, 9, 10, 11, 12, 13, 14, 15, 16, 17, 18, 19, 20

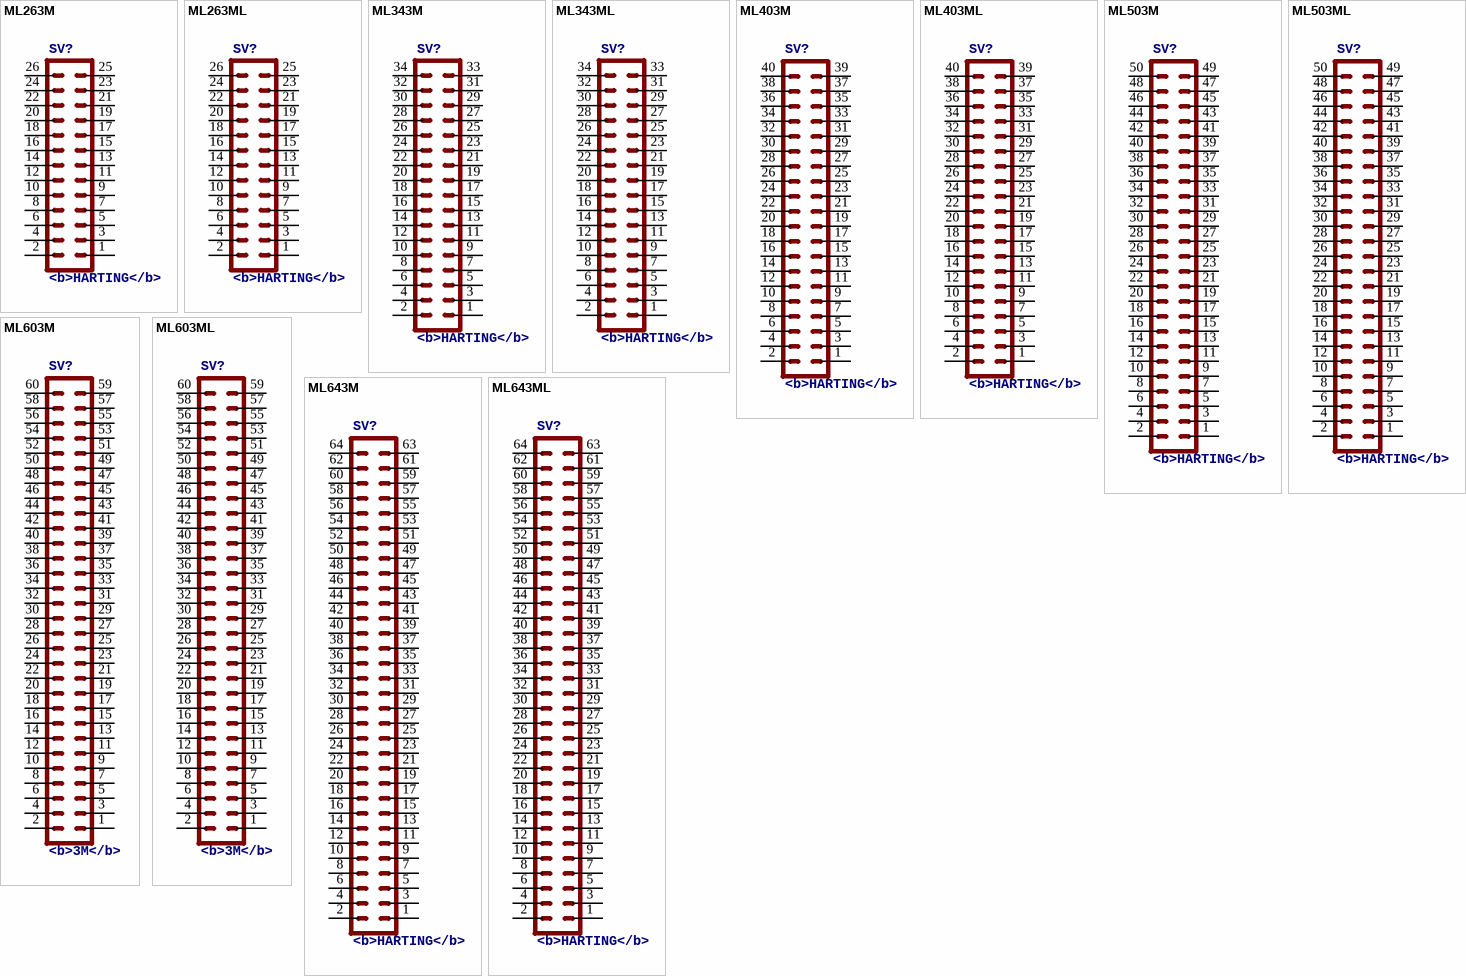
[diagram p17: symbols ML263M to ML643ML]

## ML263M
designator SV?, comment <b>HARTING</b>
OC_FARNELL: unknown; OC_NEWARK: unknown
footprint 3M_26
pins: 1, 2, 3, 4, 5, 6, 7, 8, 9, 10, 11, 12, 13, 14, 15, 16, 17, 18, 19, 20, 21, 22, 23, 24, 25, 26

## ML263ML
designator SV?, comment <b>HARTING</b>
OC_FARNELL: unknown; OC_NEWARK: unknown
footprint 3M_26L
pins: 1, 2, 3, 4, 5, 6, 7, 8, 9, 10, 11, 12, 13, 14, 15, 16, 17, 18, 19, 20, 21, 22, 23, 24, 25, 26

## ML343M
designator SV?, comment <b>HARTING</b>
OC_FARNELL: unknown; OC_NEWARK: unknown
footprint 3M_34
pins: 1, 2, 3, 4, 5, 6, 7, 8, 9, 10, 11, 12, 13, 14, 15, 16, 17, 18, 19, 20, 21, 22, 23, 24, 25, 26, 27, 28, 29, 30, 31, 32, 33, 34

## ML343ML
designator SV?, comment <b>HARTING</b>
OC_FARNELL: unknown; OC_NEWARK: unknown
footprint 3M_34L
pins: 1, 2, 3, 4, 5, 6, 7, 8, 9, 10, 11, 12, 13, 14, 15, 16, 17, 18, 19, 20, 21, 22, 23, 24, 25, 26, 27, 28, 29, 30, 31, 32, 33, 34

## ML403M
designator SV?, comment <b>HARTING</b>
OC_FARNELL: unknown; OC_NEWARK: unknown
footprint 3M_40
pins: 1, 2, 3, 4, 5, 6, 7, 8, 9, 10, 11, 12, 13, 14, 15, 16, 17, 18, 19, 20, 21, 22, 23, 24, 25, 26, 27, 28, 29, 30, 31, 32, 33, 34, 35, 36, 37, 38, 39, 40

## ML403ML
designator SV?, comment <b>HARTING</b>
OC_FARNELL: unknown; OC_NEWARK: unknown
footprint 3M_40L
pins: 1, 2, 3, 4, 5, 6, 7, 8, 9, 10, 11, 12, 13, 14, 15, 16, 17, 18, 19, 20, 21, 22, 23, 24, 25, 26, 27, 28, 29, 30, 31, 32, 33, 34, 35, 36, 37, 38, 39, 40

## ML503M
designator SV?, comment <b>HARTING</b>
OC_FARNELL: unknown; OC_NEWARK: unknown
footprint 3M_50
pins: 1, 2, 3, 4, 5, 6, 7, 8, 9, 10, 11, 12, 13, 14, 15, 16, 17, 18, 19, 20, 21, 22, 23, 24, 25, 26, 27, 28, 29, 30, 31, 32, 33, 34, 35, 36, 37, 38, 39, 40, 41, 42, 43, 44, 45, 46, 47, 48, 49, 50

## ML503ML
designator SV?, comment <b>HARTING</b>
OC_FARNELL: unknown; OC_NEWARK: unknown
footprint 3M_50L
pins: 1, 2, 3, 4, 5, 6, 7, 8, 9, 10, 11, 12, 13, 14, 15, 16, 17, 18, 19, 20, 21, 22, 23, 24, 25, 26, 27, 28, 29, 30, 31, 32, 33, 34, 35, 36, 37, 38, 39, 40, 41, 42, 43, 44, 45, 46, 47, 48, 49, 50

## ML603M
designator SV?, comment <b>3M</b>
OC_FARNELL: unknown; OC_NEWARK: unknown
footprint 3M_60
pins: 1, 2, 3, 4, 5, 6, 7, 8, 9, 10, 11, 12, 13, 14, 15, 16, 17, 18, 19, 20, 21, 22, 23, 24, 25, 26, 27, 28, 29, 30, 31, 32, 33, 34, 35, 36, 37, 38, 39, 40, 41, 42, 43, 44, 45, 46, 47, 48, 49, 50, 51, 52, 53, 54, 55, 56, 57, 58, 59, 60

## ML603ML
designator SV?, comment <b>3M</b>
OC_FARNELL: unknown; OC_NEWARK: unknown
footprint 3M_60L
pins: 1, 2, 3, 4, 5, 6, 7, 8, 9, 10, 11, 12, 13, 14, 15, 16, 17, 18, 19, 20, 21, 22, 23, 24, 25, 26, 27, 28, 29, 30, 31, 32, 33, 34, 35, 36, 37, 38, 39, 40, 41, 42, 43, 44, 45, 46, 47, 48, 49, 50, 51, 52, 53, 54, 55, 56, 57, 58, 59, 60

## ML643M
designator SV?, comment <b>HARTING</b>
OC_FARNELL: unknown; OC_NEWARK: unknown
footprint 3M_64
pins: 1, 2, 3, 4, 5, 6, 7, 8, 9, 10, 11, 12, 13, 14, 15, 16, 17, 18, 19, 20, 21, 22, 23, 24, 25, 26, 27, 28, 29, 30, 31, 32, 33, 34, 35, 36, 37, 38, 39, 40, 41, 42, 43, 44, 45, 46, 47, 48, 49, 50, 51, 52, 53, 54, 55, 56, 57, 58, 59, 60, 61, 62, 63, 64

## ML643ML
designator SV?, comment <b>HARTING</b>
OC_FARNELL: unknown; OC_NEWARK: unknown
footprint 3M_64L
pins: 1, 2, 3, 4, 5, 6, 7, 8, 9, 10, 11, 12, 13, 14, 15, 16, 17, 18, 19, 20, 21, 22, 23, 24, 25, 26, 27, 28, 29, 30, 31, 32, 33, 34, 35, 36, 37, 38, 39, 40, 41, 42, 43, 44, 45, 46, 47, 48, 49, 50, 51, 52, 53, 54, 55, 56, 57, 58, 59, 60, 61, 62, 63, 64